# Altium footprint library PCBx.PcbLib: 24 footprints (part 2 of 2)
Each footprint in its own frame and in the unit in brackets; x right, y up, seen from the top. Pads: shape width x height; smd on the part's side, far side on the other; paste and mask are expansions set on the pad; w line width, h text height; cw(c..) or ccw(c..) is an arc to the next point about the centre after c.
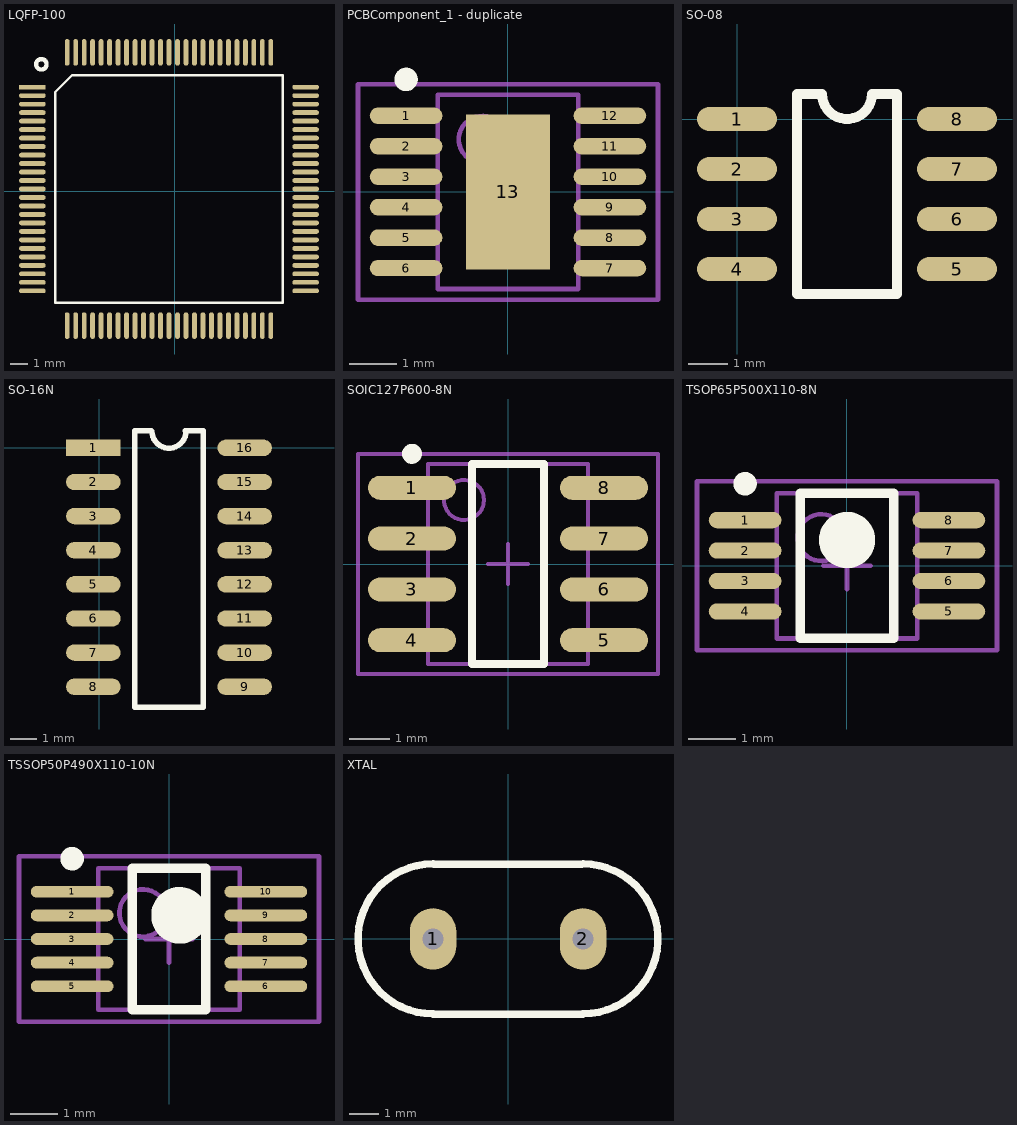
[diagram p1: the footprints below, top view; thin cyan lines are the x and y axes]

## LQFP-100 [mil]
pads (100):
  rect 62x11.02 smd: 1(-330,241)
  oval 62x11.02 smd: 2(-330,221.31) 3(-330,201.63) 4(-330,181.94) 5(-330,162.26) 6(-330,142.57) 7(-330,122.89) 8(-330,103.2) 9(-330,83.52) 10(-330,63.84) 11(-330,44.15) 12(-330,24.46) 13(-330,4.78) 14(-330,-14.9) 15(-330,-34.59) 16(-330,-54.27) 17(-330,-73.96) 18(-330,-93.64) 19(-330,-113.33) 20(-330,-133.01) 21(-330,-152.7) 22(-330,-172.38) 23(-330,-192.07) 24(-330,-211.75) 25(-330,-231.44) 51(303.87,-231.44) 52(303.87,-211.75) 53(303.87,-192.07) 54(303.87,-172.38) 55(303.87,-152.7) 56(303.87,-133.01) 57(303.87,-113.33) 58(303.87,-93.64) 59(303.87,-73.96) 60(303.87,-54.27) 61(303.87,-34.59) 62(303.87,-14.9) 63(303.87,4.78) 64(303.87,24.46) 65(303.87,44.15) 66(303.87,63.84) 67(303.87,83.52) 68(303.87,103.2) 69(303.87,122.89) 70(303.87,142.57) 71(303.87,162.26) 72(303.87,181.94) 73(303.87,201.63) 74(303.87,221.31) 75(303.87,241)
  oval 11.02x62 smd: 26(-249.28,-312.16) 27(-229.6,-312.16) 28(-209.91,-312.16) 29(-190.23,-312.16) 30(-170.54,-312.16) 31(-150.86,-312.16) 32(-131.17,-312.16) 33(-111.49,-312.16) 34(-91.8,-312.16) 35(-72.12,-312.16) 36(-52.43,-312.16) 37(-32.75,-312.16) 38(-13.06,-312.16) 39(6.62,-312.16) 40(26.31,-312.16) 41(45.99,-312.16) 42(65.68,-312.16) 43(85.36,-312.16) 44(105.05,-312.16) 45(124.73,-312.16) 46(144.42,-312.16) 47(164.1,-312.16) 48(183.79,-312.16) 49(203.47,-312.16) 50(223.16,-312.16) 76(223.16,321.72) 77(203.47,321.72) 78(183.79,321.72) 79(164.1,321.72) 80(144.42,321.72) 81(124.73,321.72) 82(105.05,321.72) 83(85.36,321.72) 84(65.68,321.72) 85(45.99,321.72) 86(26.31,321.72) 87(6.62,321.72) 88(-13.06,321.72) 89(-32.75,321.72) 90(-52.43,321.72) 91(-72.12,321.72) 92(-91.8,321.72) 93(-111.49,321.72) 94(-131.17,321.72) 95(-150.86,321.72) 96(-170.54,321.72) 97(-190.23,321.72) 98(-209.91,321.72) 99(-229.6,321.72) 100(-249.28,321.72)
Top Overlay:
  circle w10: c-309.17,294 r12.16
  lines w5.91: -277.24,-259.39 -277.24,229.19 -237.47,268.95 251.11,268.95 251.11,-259.39 -277.24,-259.39

## PCBComponent_1 - duplicate [mm]
pads (13):
  oval 1.55x0.35 smd: 1(-2.175,1.625) 2(-2.175,0.975) 3(-2.175,0.325) 4(-2.175,-0.325) 5(-2.175,-0.975) 7(2.175,-1.625) 8(2.175,-0.975) 9(2.175,-0.325) 10(2.175,0.325) 11(2.175,0.975) 12(2.175,1.625)
  oval 1.55x0.34 smd: 6(-2.175,-1.625)
  rect 1.8x3.3 smd: 13(0,0)
Top Overlay:
  circle w0.25: c-2.175,2.4 r0.125
Mechanical 13:
  circle w0.1: c-0.55,1.12 r0.5
  lines w0.1: -1.5,-2.07 1.5,-2.07 1.5,2.07 -1.5,2.07 -1.5,-2.07
Mechanical 15:
  lines w0.1: -0.5,0 0.5,0 ; 0,-0.5 0,0.5 ; -3.2,-2.3 3.2,-2.3 3.2,2.3 -3.2,2.3 -3.2,-2.3
3D body: height 1.1, standoff 0.18, extent -1.5,-2.07 1.5,2.07

## SO-08 [mil]
pads (8):
  oval 80x24 smd: 1(0,0) 2(0,-50) 3(0,-100) 4(0,-150) 5(220,-150) 6(220,-100) 7(220,-50) 8(220,0)
Top Overlay:
  lines w10: 60,-175 60,25 85,25 ccw(c110,25) 135,25 160,25 160,-175 60,-175

## SO-16N [mil]
pads (16):
  rect 80x24 smd: 1(-9,0.1)
  oval 80x24 smd: 2(-9,-49.9) 3(-9,-99.9) 4(-9,-149.9) 5(-9,-199.9) 6(-9,-249.9) 7(-9,-299.9) 8(-9,-349.9) 9(212.9,-349.9) 10(212.9,-299.9) 11(212.9,-249.9) 12(212.9,-199.9) 13(212.9,-149.9) 14(212.9,-99.9) 15(212.9,-49.9) 16(212.9,0.1)
Top Overlay:
  lines w8: 51.9,24.72 51.9,-379.9 151.9,-379.9 151.9,24.72 ; 51.9,25.1 76,25.1 ; 76.9,24.72 ccw(c101.9,24.72) 126.9,24.72 ; 126,25.1 151.9,25.1

## SOIC127P600-8N [mm]
pads (8):
  oval 2.2x0.6 smd: 1(-2.4,1.905) 2(-2.4,0.635) 3(-2.4,-0.635) 4(-2.4,-1.905) 5(2.4,-1.905) 6(2.4,-0.635) 7(2.4,0.635) 8(2.4,1.905)
Top Overlay:
  circle w0.25: c-2.4,2.755 r0.125
  lines w0.2: -0.9,-2.5 -0.9,2.5 0.9,2.5 0.9,-2.5 -0.9,-2.5
Mechanical 13:
  circle w0.1: c-1.1,1.6 r0.5
  lines w0.1: -2,-2.5 -2,2.5 2,2.5 2,-2.5 -2,-2.5
Mechanical 15:
  lines w0.1: -0.5,0 0.5,0 ; 0,-0.5 0,0.5 ; -3.75,-2.75 -3.75,2.75 3.75,2.75 3.75,-2.75 -3.75,-2.75
3D body: height 1.75, standoff 0, extent -2,-2.5 2,2.5

## TSOP65P500X110-8N [mm]
pads (8):
  oval 1.55x0.35 smd: 1(-2.175,0.975) 2(-2.175,0.325) 3(-2.175,-0.325) 4(-2.175,-0.975) 5(2.175,-0.975) 6(2.175,-0.325) 7(2.175,0.325) 8(2.175,0.975)
Top Overlay:
  circle w0.25: c-2.175,1.75 r0.125
  circle w0.6: c0,0.55 r0.3
  lines w0.2: -1,-1.55 -1,1.55 1,1.55 1,-1.55 -1,-1.55
Mechanical 13:
  circle w0.1: c-0.55,0.6 r0.5
  lines w0.1: -1.5,-1.55 -1.5,1.55 1.5,1.55 1.5,-1.55 -1.5,-1.55
Mechanical 15:
  lines w0.1: -0.5,0 0.5,0 ; 0,-0.5 0,0.5 ; -3.2,-1.8 -3.2,1.8 3.2,1.8 3.2,-1.8 -3.2,-1.8
3D body: height 1.1, standoff 0.18, extent -1.5,-1.55 1.5,1.55

## TSSOP50P490X110-10N [mm]
pads (10):
  oval 1.75x0.25 smd: 1(-2.05,1) 2(-2.05,0.5) 3(-2.05,0) 4(-2.05,-0.5) 5(-2.05,-1) 6(2.05,-1) 7(2.05,-0.5) 8(2.05,0) 9(2.05,0.5) 10(2.05,1)
Top Overlay:
  circle w0.25: c-2.05,1.7 r0.125
  circle w0.6: c0.225,0.5 r0.3
  lines w0.2: -0.775,-1.5 -0.775,1.5 0.775,1.5 0.775,-1.5 -0.775,-1.5
Mechanical 13:
  circle w0.1: c-0.55,0.55 r0.5
  lines w0.1: -1.5,-1.5 -1.5,1.5 1.5,1.5 1.5,-1.5 -1.5,-1.5
Mechanical 15:
  lines w0.1: -0.5,0 0.5,0 ; 0,-0.5 0,0.5 ; -3.175,-1.75 -3.175,1.75 3.175,1.75 3.175,-1.75 -3.175,-1.75
3D body: height 1.1, standoff 0.13, extent -1.5,-1.5 1.5,1.5

## XTAL [mil]
pads (2):
  oval 62x82 hole 28: 1(-100,0) 2(100,0)
Top Overlay:
  lines w10: -100,-100.39 99.8,-100.39 ; -100,-100 cw(c-100,0) -100,100 ; -99.02,99.41 98.62,99.37 ; 100,-100 ccw(c100,0) 100,100